# EAGLE library part 03962A (library 03962A)
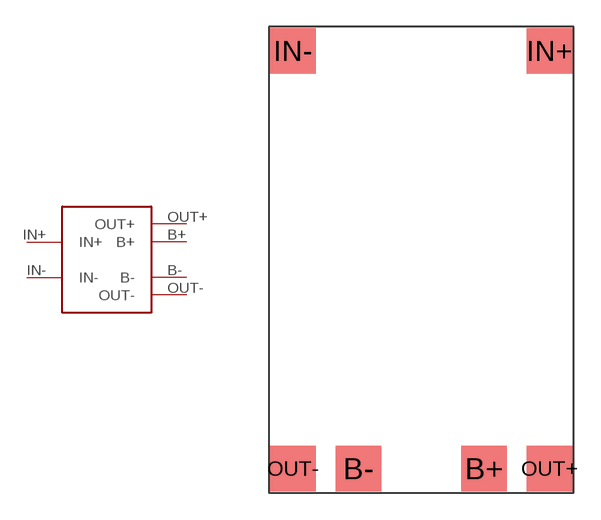
[diagram p0: symbol with the pads of 03962A; footprint 03962A]

Designator prefix -

## 03962A  [03962A]
B+  B+
B-  B-
IN+  IN+
IN-  IN-
OUT+  OUT+
OUT-  OUT-

## Footprint 03962A (pad centres in mm)
smd 2.54 x 2.54: B+ 12,1.35; B- 5,1.35; IN+ 15.65,24.65; IN- 1.35,24.65; OUT+ 15.65,1.35; OUT- 1.35,1.35